# Altium integrated library Sounder.IntLib: 2 symbols
Pins are listed as number, name and electrical type; pins without a type are passive.

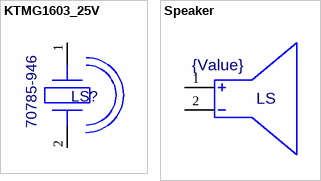
[diagram p0: symbols KTMG1603_25V to Speaker]

## KTMG1603_25V
designator LS?, comment 70785-946
Sounder, KTMG1603_25V; ECAD_Revision: 2; Librarian: UK; Voltage Rating (V): 25V; HelpURL: *; Item: *; PartNumber: 70785-946
footprint KMTG1603 (Rev. 1)
pins: 1, 2

## Speaker
designator LS, comment value {Value}  (hidden comment: AWT25-500089)
Speaker; ECAD_Revision: 2; Librarian: US; PartNumber: AWT25-500089; Item: *; HelpURL: K:\ACCELEDA\PDF Spec Files\MISS\speaker.pdf
footprint Speaker (PC Mount Speaker)
pins: 1, 2